# Altium schematic symbol library Seaglider_Power_board_Schematic_Library.SchLib: 35 symbols
Pins are listed as number, name and electrical type; pins without a type are passive.

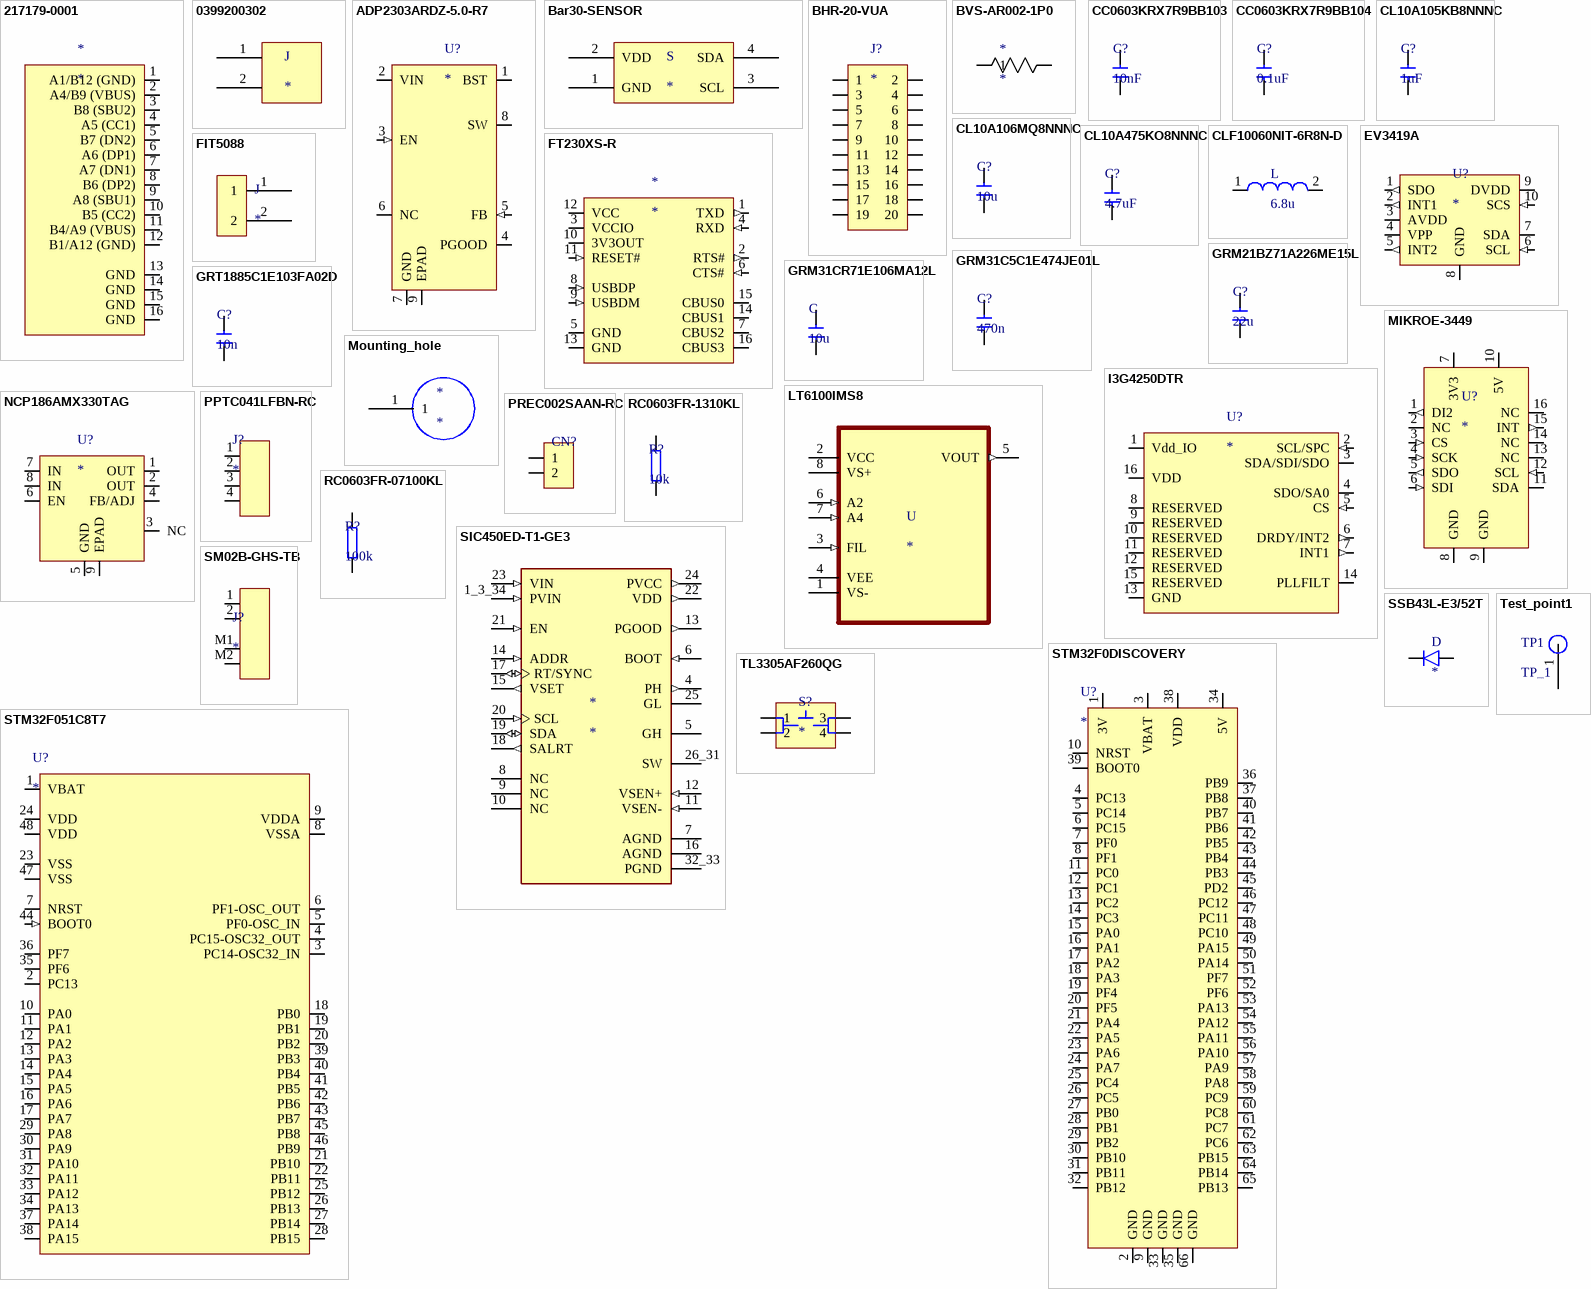
[diagram p0: symbols 217179-0001 to TL3305AF260QG]

## 217179-0001
designator *
Manufacturer: Molex; Manufacturer Part Number: 217179-0001; Supplier: Mouser; Supplier Part Number: 538-217179-0001; RoHS: No; Category: Connectors; Pricing: 1=0.9, 10=0.738, 50=0.738, 100=0.622, 1000=0.571, 10000=0.44 (USD)
footprint USB TYPE C 16 PIN TOP MOUNT SMT
pins: 1 A1/B12 (GND), 2 A4/B9 (VBUS), 3 B8 (SBU2), 4 A5 (CC1), 5 B7 (DN2), 6 A6 (DP1), 7 A7 (DN1), 8 B6 (DP2), 9 A8 (SBU1), 10 B5 (CC2), 11 B4/A9 (VBUS), 12 B1/A12 (GND), 13 GND, 14 GND, 15 GND, 16 GND

## 0399200302
designator J  (no BOM)
footprint 0399200302 (Connector)
pins: 1, 2

## ADP2303ARDZ-5.0-R7
designator U?
IC REG BUCK 5V 3A 8SOIC; Manufacturer: Analog Devices; Manufacturer Part Number: ADP2303ARDZ-5.0-R7; Number of Outputs: 1; Min Input Voltage: 3V; Max Supply Voltage: 20V; Rise Time: 170ns; Switching Frequency: 700kHz; Min Output Voltage: 800mV; Synchronous Rectifier: No; Operating Supply Current: 950uA; Fall Time: 280ns; Max Duty Cycle: 50%; Max Output Voltage: 16V; Output Type: Fixed; Output Configuration: Positive; Supplier: Digi-Key; Supplier Part Number: 505-ADP2303ARDZ-5.0-R7CT-ND; RoHS: Yes; Category: Voltage Regulators - Switching; Stock: 1579; Pricing: 1=4.1, 10=3.678, 25=3.4768, 100=3.0133, 250=2.8588, 500=2.5652 (USD); Mounting Technology: Surface Mount; Case/Package: SOIC; Pins: 8; Weight: 0.019048oz; Contact Plating: Tin,Matte; Min Operating Temperature: -40°C; Max Operating Temperature: 125°C; Packaging: Tape and Reel; Output Current: 3A; Output Voltage: 5V; Operating Supply Voltage: 20V; Nominal Output Voltage: 5V; Max Output current: 3A; Series: -; Length: 4.9mm; Width: 4mm; Height: 1.75mm; Radiation Hardening: No; Reach SVHC Compliant: No; Lead Free: Contains Lead; RoHS Compliant: Yes; ComponentLink1URL: https://datasheet.ciiva.com/25626/0900766b810b59f9-25626508.pdf?src-supplier=Rs; ComponentLink1Description: https://datasheet.ciiva.com/25626/0900766b810b59f9-25626508.pdf?src-supplier=Rs; ComponentLink2URL: https://datasheet.ciiva.com/7994/1624274-7994911.pdf?src-supplier=Element14; ComponentLink2Description: https://datasheet.ciiva.com/7994/1624274-7994911.pdf?src-supplier=Element14; ComponentLink3URL: https://datasheet.ciiva.com/28436/1624274-28436554.pdf?src-supplier=Element14; ComponentLink3Description: https://datasheet.ciiva.com/28436/1624274-28436554.pdf?src-supplier=Element14; ComponentLink4URL: https://datasheet.ciiva.com/2024/adp2302-2303-2024382.pdf?src-supplier=Digi-Key; ComponentLink4Description: https://datasheet.ciiva.com/2024/adp2302-2303-2024382.pdf?src-supplier=Digi-Key; ComponentLink5URL: https://datasheet.ciiva.com/2024/adp2302-2303-2024383.pdf?src-supplier=Digi-Key; ComponentLink5Description: https://datasheet.ciiva.com/2024/adp2302-2303-2024383.pdf?src-supplier=Digi-Key; ComponentLink6URL: https://datasheet.ciiva.com/2024/adp2302-2303-2024384.pdf?src-supplier=Digi-Key; ComponentLink6Description: https://datasheet.ciiva.com/2024/adp2302-2303-2024384.pdf?src-supplier=Digi-Key; ComponentLink7URL: https://datasheet.ciiva.com/48696/001251161-da-01-en-ic-reg-buc-adp2303ardz-5-0-r7-soic-8-adi-48696838.pdf?src-supplier=Conrad; ComponentLink7Description: https://datasheet.ciiva.com/48696/001251161-da-01-en-ic-reg-buc-adp2303ardz-5-0-r7-soic-8-adi-48696838.pdf?src-supplier=Conrad
footprint SOIC-8-EP
footprint SOIC-8-EP
pins: 1 BST, 2 VIN (power), 3 EN (in), 4 PGOOD (oe), 5 FB (in), 6 NC, 7 GND (power), 8 SW (power), 9 EPAD (power)

## Bar30-SENSOR
designator S
pins: 1 GND, 2 VDD, 3 SCL, 4 SDA

## BHR-20-VUA
designator J?
CONN HEADER VERT 20POS 2.54MM; Manufacturer: Adam Equipment; Manufacturer Part Number: BHR-20-VUA; Current Rating: 1A; Number of Positions: 20; Voltage Rating (AC): 250V; Supplier: Digi-Key; Supplier Part Number: 2057-BHR-20-VUA-ND; RoHS: Yes; Category: Card Edge Connectors; Stock: 5475; Pricing: 1=0.44, 10=0.387, 160=0.31944, 480=0.27775, 960=0.22915, 4960=0.20137, 10080=0.18748 (USD); Contact Material: Brass; Contact Plating: Gold; Contact Shape: Square; Contact Finish - Mating: GOLD; Insulation Material: PBT; Min Operating Temperature: -50°C; Max Operating Temperature: 105°C; Number of Rows: 2; Packaging: Tray; Series: BHR; Termination: Solder; Package Quantity: 216; Connector Type: Header; Fastening Type: Pull; Contact Type: Male Pin; Pitch: 2.54mm; Flammability Rating: UL94 V-0; Lead Free: Lead Free; ComponentLink1URL: https://datasheet.ciiva.com/16418/page-319-321-16418950.pdf?src-supplier=Future+Electronics; ComponentLink1Description: https://datasheet.ciiva.com/16418/page-319-321-16418950.pdf?src-supplier=Future+Electronics
footprint CONN SHROUDED HEADER VERT 20POS 2.54MM
pins: 1, 2, 3, 4, 5, 6, 7, 8, 9, 10, 11, 12, 13, 14, 15, 16, 17, 18, 19, 20

## BVS-AR002-1P0
designator *
footprint BVS-R002-1P0
pins: 1, 2

## CC0603KRX7R9BB103
designator C?, comment 10nF
CAP CER 10000PF 50V X7R 0603; Manufacturer: Yageo; Manufacturer Part Number: CC0603KRX7R9BB103; Material: Ceramic; Tolerance: 10%; Insulation Resistance: 100GR; Supplier: Digi-Key; Supplier Part Number: 311-1085-1-ND; RoHS: Yes; Category: Ceramic Capacitors; Stock: 6556090; Pricing: 1=0.1, 10=0.032, 50=0.0176, 100=0.0144, 500=0.01026, 1000=0.00805 (USD); Mounting Technology: Surface Mount; Case/Package: 0603; Pins: 2; Case Code (Metric): 1608; Case Code (Imperial): 0603; Min Operating Temperature: -55°C; Max Operating Temperature: 125°C; Value: 10nF; Dielectric: X7R; Voltage: 50V; Packaging: Tape and Reel; Voltage Rating: 50V; Voltage Rating (DC): 50V; Package Quantity: 1; Termination: SMD/SMT; Series: CC; Length: 1.6mm; Width: 0.031inch; Height: 0.8mm; Thickness: 0.035inch; Depth: 0.8mm; Radiation Hardening: No; RoHS Compliant: Yes; Lead Free: Lead Free; Halogen Free: Halogen Free; Reach SVHC Compliant: Unknown; ComponentLink1URL: https://datasheet.ciiva.com/11788/0900766b8079c870-11788374.pdf?src-supplier=Rs; ComponentLink1Description: https://datasheet.ciiva.com/11788/0900766b8079c870-11788374.pdf?src-supplier=Rs; ComponentLink2URL: https://datasheet.ciiva.com/26862/getdatasheetpartid-403582-26862846.pdf?src-supplier=Verical; ComponentLink2Description: https://datasheet.ciiva.com/26862/getdatasheetpartid-403582-26862846.pdf?src-supplier=Verical; ComponentLink3URL: https://datasheet.ciiva.com/8033/70765-8033817.pdf?src-supplier=Element14; ComponentLink3Description: https://datasheet.ciiva.com/8033/70765-8033817.pdf?src-supplier=Element14; ComponentLink4URL: https://datasheet.ciiva.com/28450/1489800-28450619.pdf?src-supplier=Element14; ComponentLink4Description: https://datasheet.ciiva.com/28450/1489800-28450619.pdf?src-supplier=Element14; ComponentLink5URL: https://datasheet.ciiva.com/176/mlccorderingcode-176551.pdf?src-supplier=Digi-Key; ComponentLink5Description: https://datasheet.ciiva.com/176/mlccorderingcode-176551.pdf?src-supplier=Digi-Key; ComponentLink6URL: https://datasheet.ciiva.com/176/mlccorderingcode-176550.pdf?src-supplier=Digi-Key; ComponentLink6Description: https://datasheet.ciiva.com/176/mlccorderingcode-176550.pdf?src-supplier=Digi-Key; ComponentLink7URL: https://datasheet.ciiva.com/176/mlccorderingcode-176552.pdf?src-supplier=Digi-Key; ComponentLink7Description: https://datasheet.ciiva.com/176/mlccorderingcode-176552.pdf?src-supplier=Digi-Key; ComponentLink8URL: https://datasheet.ciiva.com/13389/upy-gphc-x7r-6-3v-to-50v-8-13389991.pdf?src-supplier=Mouser; ComponentLink8Description: https://datasheet.ciiva.com/13389/upy-gphc-x7r-6-3v-to-50v-8-13389991.pdf?src-supplier=Mouser; ComponentLink9URL: https://datasheet.ciiva.com/8033/1734573-8033816.pdf?src-supplier=Element14; ComponentLink9Description: https://datasheet.ciiva.com/8033/1734573-8033816.pdf?src-supplier=Element14; ComponentLink10URL: https://datasheet.ciiva.com/8033/1734573-8033861.pdf?src-supplier=Element14; ComponentLink10Description: https://datasheet.ciiva.com/8033/1734573-8033861.pdf?src-supplier=Element14
footprint 0603 Capacitor
pins: 1, 2

## CC0603KRX7R9BB104
designator C?, comment 0.1uF
CAP CER 0.1UF 50V X7R 0603; Manufacturer: Yageo; Manufacturer Part Number: CC0603KRX7R9BB104; Dielectric Material: Ceramic; Value: 100nF; Tolerance: 10%; Supplier: Digi-Key; Supplier Part Number: 311-1344-1-ND; RoHS: Yes; Category: Ceramic Capacitors; Stock: 4893723; Pricing: 1=0.1, 10=0.054, 50=0.0296, 100=0.0243, 500=0.01732, 1000=0.01361 (USD); Mounting Technology: Surface Mount; Case/Package: 0603; Pins: 2; Case Code (Metric): 1608; Case Code (Imperial): 0603; Min Operating Temperature: -55°C; Max Operating Temperature: 125°C; Package Quantity: 1; Voltage Rating: 50V; Packaging: Tape and Reel; Dielectric: X7R; Termination: SMD/SMT; Voltage: 50V; Series: CC; Length: 0.063inch; Width: 0.031inch; Height: 0.8mm; Thickness: 0.035inch; Depth: 0.8mm; Radiation Hardening: No; Reach SVHC Compliant: No; Lead Free: Lead Free; Halogen Free: Halogen Free; RoHS Compliant: Yes; ComponentLink1URL: https://datasheet.ciiva.com/11786/0900766b80d84f1d-11786061.pdf?src-supplier=Rs; ComponentLink1Description: https://datasheet.ciiva.com/11786/0900766b80d84f1d-11786061.pdf?src-supplier=Rs; ComponentLink2URL: https://datasheet.ciiva.com/8033/70765-8033819.pdf?src-supplier=Element14; ComponentLink2Description: https://datasheet.ciiva.com/8033/70765-8033819.pdf?src-supplier=Element14; ComponentLink3URL: https://datasheet.ciiva.com/8033/70765-8033821.pdf?src-supplier=Element14; ComponentLink3Description: https://datasheet.ciiva.com/8033/70765-8033821.pdf?src-supplier=Element14; ComponentLink4URL: https://datasheet.ciiva.com/7978/1489800-7978166.pdf?src-supplier=Element14; ComponentLink4Description: https://datasheet.ciiva.com/7978/1489800-7978166.pdf?src-supplier=Element14; ComponentLink5URL: https://datasheet.ciiva.com/31394/1489800-31394927.pdf?src-supplier=Farnell; ComponentLink5Description: https://datasheet.ciiva.com/31394/1489800-31394927.pdf?src-supplier=Farnell; ComponentLink6URL: https://datasheet.ciiva.com/22749/1489800-22749214.pdf?src-supplier=Element14; ComponentLink6Description: https://datasheet.ciiva.com/22749/1489800-22749214.pdf?src-supplier=Element14; ComponentLink7URL: https://datasheet.ciiva.com/144/mlccorderingcode-144177.pdf?src-supplier=Digi-Key; ComponentLink7Description: https://datasheet.ciiva.com/144/mlccorderingcode-144177.pdf?src-supplier=Digi-Key; ComponentLink8URL: https://datasheet.ciiva.com/144/mlccorderingcode-144176.pdf?src-supplier=Digi-Key; ComponentLink8Description: https://datasheet.ciiva.com/144/mlccorderingcode-144176.pdf?src-supplier=Digi-Key; ComponentLink9URL: https://datasheet.ciiva.com/144/mlccorderingcode-144178.pdf?src-supplier=Digi-Key; ComponentLink9Description: https://datasheet.ciiva.com/144/mlccorderingcode-144178.pdf?src-supplier=Digi-Key
footprint 0603 Capacitor
pins: 1, 2

## CL10A105KB8NNNC
designator C?, comment 1uF
CAP CER 1UF 50V X5R 0603; Manufacturer: Samsung; Manufacturer Part Number: CL10A105KB8NNNC; Tolerance: 10%; Supplier: Digi-Key; Supplier Part Number: 1276-1860-1-ND; RoHS: Yes; Category: Ceramic Capacitors; Stock: 3695273; Pricing: 1=0.14, 10=0.098, 50=0.0558, 100=0.0462, 500=0.03238, 1000=0.0268 (USD); Mounting Technology: Surface Mount; Case/Package: 0603; Case Code (Metric): 1608; Case Code (Imperial): 0603; Min Operating Temperature: -55°C; Max Operating Temperature: 85°C; Packaging: Tape and Reel; Value: 1uF; Voltage Rating: 50V; Dielectric: X5R; Series: CL; Length: 1.6mm; Depth: 0.8mm; Radiation Hardening: No; RoHS Compliant: Yes; ComponentLink1URL: https://datasheet.ciiva.com/26877/getdatasheetpartid-753736-26877879.pdf?src-supplier=Verical; ComponentLink1Description: https://datasheet.ciiva.com/26877/getdatasheetpartid-753736-26877879.pdf?src-supplier=Verical
footprint 0603 Capacitor
pins: 1, 2

## CL10A106MQ8NNNC
designator C?, comment 10u
CAP CER 10UF 6.3V X5R 0603; Manufacturer: Samsung; Manufacturer Part Number: CL10A106MQ8NNNC; Tolerance: 20%; Supplier: Digi-Key; Supplier Part Number: 1276-1119-1-ND; RoHS: Yes; Category: Ceramic Capacitors; Stock: 2630109; Pricing: 1=0.11, 10=0.083, 50=0.0452, 100=0.0369, 500=0.02638, 1000=0.02072 (USD); Mounting Technology: Surface Mount; Case/Package: 0603; Case Code (Metric): 1608; Case Code (Imperial): 0603; Min Operating Temperature: -55°C; Max Operating Temperature: 85°C; Value: 10uF; Packaging: Tape and Reel; Voltage Rating: 6.3V; Dielectric: X5R; Series: CL; Voltage: 6.3V; Construction: Flat; Length: 1.6mm; Height: 0.8mm; Depth: 0.8mm; Radiation Hardening: No; RoHS Compliant: Yes; ComponentLink1URL: https://datasheet.ciiva.com/25798/cl10a106mq8nnnc-25798320.pdf?src-supplier=Digi-Key; ComponentLink1Description: https://datasheet.ciiva.com/25798/cl10a106mq8nnnc-25798320.pdf?src-supplier=Digi-Key; ComponentLink2URL: https://datasheet.ciiva.com/26838/getdatasheetpartid-357557-26838347.pdf?src-supplier=Verical; ComponentLink2Description: https://datasheet.ciiva.com/26838/getdatasheetpartid-357557-26838347.pdf?src-supplier=Verical; ComponentLink3URL: https://datasheet.ciiva.com/16437/cl05b104kq5nnnc-16437327.pdf?src-supplier=Future+Electronics; ComponentLink3Description: https://datasheet.ciiva.com/16437/cl05b104kq5nnnc-16437327.pdf?src-supplier=Future+Electronics
footprint 0603 Capacitor
pins: 1, 2

## CL10A475KO8NNNC
designator C?, comment 4.7uF
CAP CER 4.7UF 16V X5R 0603; Manufacturer: Samsung; Manufacturer Part Number: CL10A475KO8NNNC; Material: Ceramic; Tolerance: 10%; Supplier: Digi-Key; Supplier Part Number: 1276-1784-1-ND; RoHS: Yes; Category: Ceramic Capacitors; Stock: 1327746; Pricing: 1=0.12, 10=0.084, 50=0.0476, 100=0.0394, 500=0.02764, 1000=0.02288 (USD); Mounting Technology: Surface Mount; Case/Package: 0603; Case Code (Metric): 1608; Case Code (Imperial): 0603; Min Operating Temperature: -55°C; Max Operating Temperature: 85°C; Packaging: Tape and Reel; Value: 4.7uF; Voltage Rating: 16V; Dielectric: X5R; Voltage: 16V; Series: CL; Construction: Flat; Length: 1.6mm; Height: 0.8mm; Depth: 0.8mm; Radiation Hardening: No; RoHS Compliant: Yes
footprint 0603 Capacitor
pins: 1, 2

## CLF10060NIT-6R8N-D
designator L, comment 6.8u
FIXED IND 6.8UH 4.25A 16.9 MOHM; Manufacturer: TDK; Manufacturer Part Number: CLF10060NIT-6R8N-D; Core Material: Ferrite; RMS Current (Irms): 6.6A; DC Resistance (DCR): 16.9mR; Inductance Tolerance: 30%; Shielding: Shielded; Test Frequency: 100kHz; Supplier: Digi-Key; Supplier Part Number: 445-174715-1-ND; RoHS: Yes; Category: Fixed Inductors; Stock: 2437; Pricing: 1=1.43, 10=1.323, 25=1.1024, 50=1.0364, 100=0.9261, 250=0.7938 (USD); Mounting Technology: Surface Mount; Case/Package: Nonstandard; Min Operating Temperature: -55°C; Max Operating Temperature: 150°C; Value: 6.8uH; Saturation Current: 4.25A; Packaging: Tape and Reel; Series: CLF-NI-D; Tolerance: 30%; Ratings: AEC-Q200; Reach SVHC Compliant: No; RoHS Compliant: Yes; ComponentLink1URL: https://product.tdk.com/info/en/catalog/datasheets/inductor_automotive_power_clf10060ni-d_en.pdf?src-supplier=Digi-Key; ComponentLink1Description: https://product.tdk.com/info/en/catalog/datasheets/inductor_automotive_power_clf10060ni-d_en.pdf?src-supplier=Digi-Key; ComponentLink2URL: https://product.tdk.com/info/en/catalog/datasheets/inductor_automotive_power_clf10060ni-d_en.pdf?ref_disty=digikey&src-supplier=Digi-Key; ComponentLink2Description: https://product.tdk.com/info/en/catalog/datasheets/inductor_automotive_power_clf10060ni-d_en.pdf?ref_disty=digikey&src-supplier=Digi-Key; ComponentLink3URL: http://www.farnell.com/datasheets/2159117.pdf?src-supplier=Element14; ComponentLink3Description: http://www.farnell.com/datasheets/2159117.pdf?src-supplier=Element14
footprint CLF10060NIT-6R8N-D 10.10mm x 10.00mm
pins: 1   1, 2

## EV3419A
designator U?
MC3419 DAUGHTER CARD; Manufacturer: Memsic; Manufacturer Part Number: EV3419A; Supplier: Digi-Key; Supplier Part Number: 3502-EV3419A-ND; RoHS: No; Category: Uncategorized; Stock: 42; Pricing: 1=14.51 (USD)
footprint EV3419A
pins: 1 SDO (out), 2 INT1 (out), 3 AVDD, 4 VPP (power), 5 INT2 (out), 6 SCL (in), 7 SDA (io), 8 GND (power), 9 DVDD (power), 10 SCS (in)

## FIT5088
designator J
footprint FIT0588 (HIGH QUALITY GOLD PLATED XT90 MA Bullet Connector)
pins: 1, 2

## FT230XS-R
designator *
UART Interface RS232, RS422, RS485, SIE, UART 3MBd, 5 V, 16-Pin, SSOP; Manufacturer: FTDI; Manufacturer Part Number: FT230XS-R; Data Rate: 12Mbps; Operating Supply Voltage: 5V; Number of Channels: 1; Max Supply Voltage: 5.5V; Min Supply Voltage: 2.97V; Interface: UART,USB; Operating Supply Current: 8mA; Supplier: Digi-Key; Supplier Part Number: 768-1135-1-ND; RoHS: Yes; Category: Interface ICs; Stock: 32419; Pricing: 1=2.26, 25=2.19, 100=2.12, 250=1.93, 500=1.7625 (USD); Mounting Technology: Surface Mount; Case/Package: SSOP; Pins: 16; Weight: 0.004586oz; Min Operating Temperature: -40°C; Max Operating Temperature: 85°C; Packaging: Tape and Reel; Package Quantity: 3000; Series: USBmadeEZ-UART, FT-X, X-Chip; Length: 5mm; Width: 0.157inch; Height: 0.059inch; RoHS Compliant: Yes; ComponentLink1URL: https://datasheet.ciiva.com/1787/ds-ft230x-1787315.pdf?src-supplier=Digi-Key; ComponentLink1Description: https://datasheet.ciiva.com/1787/ds-ft230x-1787315.pdf?src-supplier=Digi-Key; ComponentLink2URL: https://datasheet.ciiva.com/4787/ds-ft230x-5395-4787571.pdf?src-supplier=Mouser; ComponentLink2Description: https://datasheet.ciiva.com/4787/ds-ft230x-5395-4787571.pdf?src-supplier=Mouser; ComponentLink3URL: https://datasheet.ciiva.com/30478/0900766b811020cb-30478167.pdf?src-supplier=Rs; ComponentLink3Description: https://datasheet.ciiva.com/30478/0900766b811020cb-30478167.pdf?src-supplier=Rs; ComponentLink4URL: https://datasheet.ciiva.com/1787/ft-x-series-1787316.pdf?src-supplier=Digi-Key; ComponentLink4Description: https://datasheet.ciiva.com/1787/ft-x-series-1787316.pdf?src-supplier=Digi-Key; ComponentLink5URL: https://datasheet.ciiva.com/1787/ft-x-series-1787317.pdf?src-supplier=Digi-Key; ComponentLink5Description: https://datasheet.ciiva.com/1787/ft-x-series-1787317.pdf?src-supplier=Digi-Key
footprint SSOP16 3.9x4.9mm P0.635
pins: 1 TXD (out), 2 RTS# (out), 3 VCCIO (power), 4 RXD (in), 5 GND (power), 6 CTS# (in), 7 CBUS2 (io), 8 USBDP (in), 9 USBDM (in), 10 3V3OUT (power), 11 RESET# (in), 12 VCC (power), 13 GND (power), 14 CBUS1 (io), 15 CBUS0 (io), 16 CBUS3 (io)

## GRM21BZ71A226ME15L
designator C?, comment 22u
CAP CER 22UF 10V X7R 0805; Manufacturer: Murata; Manufacturer Part Number: GRM21BZ71A226ME15L; Supplier: Digi-Key; Supplier Part Number: 490-GRM21BZ71A226ME15LCT-ND; RoHS: Yes; Category: Ceramic Capacitors; Stock: 55376; Pricing: 1=0.35, 10=0.241, 50=0.1688, 100=0.1447, 500=0.10852, 1000=0.09164 (USD); RoHS Compliant: Yes; ComponentLink1URL: https://datasheet.octopart.com/GRM21BZ71A226ME15L-Murata-datasheet-165579666.pdf?src-supplier=TME; ComponentLink1Description: https://datasheet.octopart.com/GRM21BZ71A226ME15L-Murata-datasheet-165579666.pdf?src-supplier=TME
footprint 0805 Capacitor
pins: 1, 2

## GRM31C5C1E474JE01L
designator C?, comment 470n
CAP CER 0.47UF 25V C0G/NP0 1206; Manufacturer: Murata; Manufacturer Part Number: GRM31C5C1E474JE01L; Supplier: Digi-Key; Supplier Part Number: 490-GRM31C5C1E474JE01LCT-ND; RoHS: Yes; Category: Ceramic Capacitors; Stock: 2413; Pricing: 1=0.67, 10=0.473, 50=0.358, 100=0.3118, 500=0.23096, 1000=0.19631 (USD)
footprint 1206 Capacitor
pins: 1, 2

## GRM31CR71E106MA12L
designator C, comment 10u
CAP CER 10UF 25V X7R 1206; Manufacturer: Murata; Manufacturer Part Number: GRM31CR71E106MA12L; Tolerance: 20%; Supplier: Digi-Key; Supplier Part Number: 490-6519-1-ND; RoHS: Yes; Category: Ceramic Capacitors; Stock: 74067; Pricing: 1=0.29, 10=0.199, 50=0.1396, 100=0.1196, 500=0.08972, 1000=0.07576 (USD); Mounting Technology: Surface Mount; Case/Package: 1206; Case Code (Metric): 3216; Case Code (Imperial): 1206; Material: 4241ConductorMaterial; Min Operating Temperature: -55°C; Max Operating Temperature: 125°C; Value: 10uF; Dielectric: X7R; Package Quantity: 1; Voltage Rating: 25V; Packaging: Tape and Reel; Termination: SMD/SMT; Voltage: 25V; Voltage Rating (DC): 25V; Series: GRM; Construction: Flat; Length: 3.2mm; Width: 0.063inch; Height: 1.6mm; Thickness: 0.071inch; Depth: 1.6mm; Radiation Hardening: No; Reach SVHC Compliant: No; Lead Free: Lead Free; RoHS Compliant: Yes; ComponentLink1URL: https://datasheet.ciiva.com/11607/product-11607561.pdf?src-supplier=Avnet; ComponentLink1Description: https://datasheet.ciiva.com/11607/product-11607561.pdf?src-supplier=Avnet; ComponentLink2URL: https://datasheet.ciiva.com/5412/product-5412861.pdf?src-supplier=Mouser; ComponentLink2Description: https://datasheet.ciiva.com/5412/product-5412861.pdf?src-supplier=Mouser; ComponentLink3URL: https://datasheet.ciiva.com/6264/partnumbering-e-01-6264463.pdf?src-supplier=Digi-Key; ComponentLink3Description: https://datasheet.ciiva.com/6264/partnumbering-e-01-6264463.pdf?src-supplier=Digi-Key
footprint 1206 Capacitor
pins: 1, 2

## GRT1885C1E103FA02D
designator C?, comment 10n
CAP CER 10000PF 25V C0G/NP0 0603; Manufacturer: Murata; Manufacturer Part Number: GRT1885C1E103FA02D; Supplier: Digi-Key; Supplier Part Number: 490-GRT1885C1E103FA02DCT-ND; RoHS: Yes; Category: Ceramic Capacitors; Stock: 1917; Pricing: 1=0.23, 10=0.156, 50=0.0934, 100=0.0788, 500=0.05394, 1000=0.04772 (USD)
footprint 0603 Capacitor
pins: 1, 2

## I3G4250DTR
designator U?
I3G4250D Series 3.6 V 6.1 mA Low-Power 3-Axis Angular Rate Sensor - LGA-16; Manufacturer: STMicroelectronics; Manufacturer Part Number: I3G4250DTR; Operating Supply Current: 6.1mA; Min Supply Voltage: 2.4V; Max Supply Voltage: 3.6V; Output Type: SPI,I2C; Axis: X, Y, Z; Supplier: Digi-Key; Supplier Part Number: 497-15699-1-ND; RoHS: Yes; Category: Gyroscopes; Stock: 17860; Pricing: 1=11.64, 10=9.315, 25=8.6164, 100=7.452, 500=6.98622, 1000=6.52047 (USD); Case/Package: TFLGA; Pins: 16; Min Operating Temperature: -40°C; Max Operating Temperature: 85°C; Packaging: Cut Tape; Series: -; Reach SVHC Compliant: No; Lead Free: Lead Free; RoHS Compliant: Yes; ComponentLink1URL: http://www.farnell.com/datasheets/2028144.pdf?src-supplier=Farnell; ComponentLink1Description: http://www.farnell.com/datasheets/2028144.pdf?src-supplier=Farnell; ComponentLink2URL: http://www.st.com/st-web-ui/static/active/en/resource/technical/document/datasheet/DM00168691.pdf?src-supplier=Avnet; ComponentLink2Description: http://www.st.com/st-web-ui/static/active/en/resource/technical/document/datasheet/DM00168691.pdf?src-supplier=Avnet; ComponentLink3URL: http://www.farnell.com/datasheets/2028144.pdf?src-supplier=Element14; ComponentLink3Description: http://www.farnell.com/datasheets/2028144.pdf?src-supplier=Element14; ComponentLink4URL: http://www.st.com/content/ccc/resource/technical/document/datasheet/e4/b1/d1/62/1a/e6/44/2f/DM00168691.pdf/files/DM00168691.pdf/jcr:content/translations/en.DM00168691.pdf?src-supplier=Digi-Key; ComponentLink4Description: http://www.st.com/content/ccc/resource/technical/document/datasheet/e4/b1/d1/62/1a/e6/44/2f/DM00168691.pdf/files/DM00168691.pdf/jcr:content/translations/en.DM00168691.pdf?src-supplier=Digi-Key
footprint LGA-16
footprint LGA-16
pins: 1 Vdd_IO (power), 2 SCL/SPC (in), 3 SDA/SDI/SDO (io), 4 SDO/SA0 (io), 5 CS (in), 6 DRDY/INT2 (out), 7 INT1 (out), 8 RESERVED, 9 RESERVED, 10 RESERVED, 11 RESERVED, 12 RESERVED, 13 GND (power), 14 PLLFILT, 15 RESERVED, 16 VDD (power)

## LT6100IMS8
designator U
footprint LT6100IMS8
pins: 1 VS- (power), 2 VCC (power), 3 FIL (in), 4 VEE (power), 5 VOUT (out), 6 A2 (in), 7 A4 (in), 8 VS+ (power)

## MIKROE-3449
designator U?
ICREGLDO3.3V1A8XDFN; Manufacturer: mikroElektronika; Output Voltage: 3.3V; Output Current: 1A; Dropout Voltage: 95mV; Number of Regulators: 1; Min Current Limit: 1.1A; Supplier: Digi-Key; Supplier Part Number: 1471-2189-ND; Manufacturer Part Number: MIKROE-3449; RoHS: No; Stock: 1; Pricing: 1=25 (USD); Category: Voltage Regulators - Linear; Mounting Technology: Surface Mount; Pins: 8; Min Operating Temperature: -40°C; Max Operating Temperature: 125°C; Packaging: Cut Tape; Series: -; Lead Free: Lead Free; RoHS Compliant: Yes; ComponentLink1URL: http://www.farnell.com/datasheets/2236905.pdf?src-supplier=Farnell; ComponentLink1Description: http://www.farnell.com/datasheets/2236905.pdf?src-supplier=Farnell; ComponentLink2URL: https://www.onsemi.com/pub/Collateral/NCP186-D.PDF?src-supplier=Digi-Key; ComponentLink2Description: https://www.onsemi.com/pub/Collateral/NCP186-D.PDF?src-supplier=Digi-Key; ComponentLink3URL: http://www.onsemi.com/pub/Collateral/NCP186-D.PDF?src-supplier=Digi-Key; ComponentLink3Description: http://www.onsemi.com/pub/Collateral/NCP186-D.PDF?src-supplier=Digi-Key; ComponentLink4URL: https://datasheet.octopart.com/NCP186AMX330TAG-ON-Semiconductor-datasheet-57745983.pdf?src-supplier=Element14; ComponentLink4Description: https://datasheet.octopart.com/NCP186AMX330TAG-ON-Semiconductor-datasheet-57745983.pdf?src-supplier=Element14; ComponentLink5URL: https://datasheet.octopart.com/NCP186AMX330TAG-ON-Semiconductor-datasheet-139012264.pdf?src-supplier=Future+Electronics; ComponentLink5Description: https://datasheet.octopart.com/NCP186AMX330TAG-ON-Semiconductor-datasheet-139012264.pdf?src-supplier=Future+Electronics; ComponentLink6URL: http://www.farnell.com/datasheets/2236905.pdf?src-supplier=Newark; ComponentLink6Description: http://www.farnell.com/datasheets/2236905.pdf?src-supplier=Newark
footprint MIKROE-3449
pins: 1 DI2 (out), 2 NC, 3 CS (in), 4 SCK (in), 5 SDO (out), 6 SDI (in), 7 3V3 (power), 8 GND (power), 9 GND (power), 10 5V (power), 11 SDA (io), 12 SCL (in), 13 NC, 14 NC, 15 INT (out), 16 NC

## Mounting_hole
designator *
footprint Mounting_Hole
pins: 1

## NCP186AMX330TAG
designator U?
ICREGLDO3.3V1A8XDFN
footprint 8-XFDFN Exposed Pad
pins: 1 OUT, 2 OUT, 3 NC, 4 FB/ADJ, 5 GND, 6 EN, 7 IN, 8 IN, 9 EPAD

## PPTC041LFBN-RC
designator J?
CONN HDR 4POS 0.1 TIN PCB; Manufacturer: Sullins; Manufacturer Part Number: PPTC041LFBN-RC; Number of Positions: 4; Connector Type: Header; Voltage Rating: 250V; Pitch: 2.54mm; Supplier: Digikey; Supplier Part Number: S7002-ND; RoHS: Yes; Category: Connectors; Stock: 28323; Pricing: 1=0.46, 10=0.399, 100=0.3286, 500=0.28574, 1000=0.23574, 5000=0.20716, 10000=0.2041 (USD); Mounting Technology: Through Hole; Contact Material: Bronze; Housing Material: Plastic; Contact Finish - Mating: TIN; Insulation Color: Black; Insulation Material: Polyester; Contact Shape: Square; Min Operating Temperature: -40°C; Max Operating Temperature: 105°C; Number of Rows: 1; Packaging: Tray; Termination: Solder; Contact Type: Female Socket; Fastening Type: Pull; Series: -; Length: 10.7mm; Width: 2.5mm; Height: 8.5mm; Lead Free: Lead Free; RoHS Compliant: Yes; Flammability Rating: UL94 V-0; ComponentLink1URL: https://media.digikey.com/pdf/Data%20Sheets/Sullins%20PDFs/Female_Headers.100_DS.pdf?src-supplier=Digikey; ComponentLink1Description: https://media.digikey.com/pdf/Data%20Sheets/Sullins%20PDFs/Female_Headers.100_DS.pdf?src-supplier=Digikey; ComponentLink2URL: http://www.sullinscorp.com/catalogs/78_Page80-81_HEADER_.100_2.54mm_FEMALE.pdf?src-supplier=Future+Electronics; ComponentLink2Description: http://www.sullinscorp.com/catalogs/78_Page80-81_HEADER_.100_2.54mm_FEMALE.pdf?src-supplier=Future+Electronics; ComponentLink3URL: https://datasheet.octopart.com/PPTC041LFBN-RC-Sullins-datasheet-41308905.pdf?src-supplier=Future+Electronics; ComponentLink3Description: https://datasheet.octopart.com/PPTC041LFBN-RC-Sullins-datasheet-41308905.pdf?src-supplier=Future+Electronics
footprint HDR 4POS 2.54mm
pins: 1, 2, 3, 4

## PREC002SAAN-RC
designator CN?
CONN HEADER VERT 2POS 2.54MM; Manufacturer: Sullins; Manufacturer Part Number: PREC002SAAN-RC; Number of Positions: 2; Pitch: 0.1inch; Supplier: Digi-Key; Supplier Part Number: S1012EC-02-ND; RoHS: Yes; Category: Connectors; Stock: 23153; Pricing: 1=0.06, 10=0.056, 25=0.0416, 50=0.0356, 100=0.0345, 250=0.02972, 500=0.02852 (USD); Mounting Technology: Through Hole; Color: Black; Contact Plating: Tin; Package Quantity: 1; Number of Rows: 1; Packaging: Bulk; Termination: Solder; Series: -; Contact Type: Male Pin; Contact Mating Length: 0.23inch; RoHS Compliant: Yes; ComponentLink1URL: https://datasheet.ciiva.com/740/zrzczzzszzn-rc-st-11635-b-740843.pdf?src-supplier=Digi-Key; ComponentLink1Description: https://datasheet.ciiva.com/740/zrzczzzszzn-rc-st-11635-b-740843.pdf?src-supplier=Digi-Key
footprint Header 2.54mm
pins: 1, 2

## RC0603FR-1310KL
designator R?, comment 10k
RES 10K OHM 1% 1/10W 0603; Manufacturer: Yageo; Manufacturer Part Number: RC0603FR-1310KL; Value: 10kR; Power Rating: 100mW; Voltage Rating: 50V; Temperature Coefficient: 100ppm/°C; Supplier: Digi-Key; Supplier Part Number: 13-RC0603FR-1310KLDKR-ND; RoHS: Yes; Category: Chip SMD Resistors; Stock: 124542; Pricing: 1=0.1, 10=0.018, 50=0.0106, 100=0.0088, 500=0.00592, 1000=0.00505, 5000=0.00363, 10000=0.00318 (USD); Pins: 2; Case Code (Imperial): 0603; Case Code (Metric): 1608; Case/Package: 0603; Min Operating Temperature: -55°C; Max Operating Temperature: 155°C; Tolerance: 1%; Packaging: Tape and Reel; Resistor Type: Thick Film; Termination: SMD/SMT; Voltage Rating (DC): 50V; Series: RC; Resistance Tolerance: 1%; RoHS Compliant: Yes; Reach SVHC Compliant: No; Lead Free: Lead Free; ComponentLink1URL: https://datasheet.ciiva.com/7983/443971-7983673.pdf?src-supplier=Element14; ComponentLink1Description: https://datasheet.ciiva.com/7983/443971-7983673.pdf?src-supplier=Element14; ComponentLink2URL: https://datasheet.ciiva.com/16850/pyu-rc0603-51-rohs-l-4-16850349.pdf?src-supplier=Future+Electronics; ComponentLink2Description: https://datasheet.ciiva.com/16850/pyu-rc0603-51-rohs-l-4-16850349.pdf?src-supplier=Future+Electronics
footprint 0603 Resistor
pins: 1, 2

## RC0603FR-07100KL
designator R?, comment 100k
RES 100K OHM 1% 1/10W 0603; Manufacturer: Yageo; Manufacturer Part Number: RC0603FR-07100KL; Value: 100kR; Temperature Coefficient: 100ppm/°C; Power Rating: 100mW; Voltage Rating: 50V; Supplier: Digi-Key; Supplier Part Number: 311-100KHRCT-ND; RoHS: Yes; Category: Chip SMD Resistors; Stock: 6816177; Pricing: 1=0.1, 10=0.018, 50=0.0106, 100=0.0088, 500=0.00592, 1000=0.00505 (USD); Case/Package: 0603; Pins: 2; Case Code (Imperial): 0603; Case Code (Metric): 1608; Min Operating Temperature: -55°C; Max Operating Temperature: 155°C; Tolerance: 1%; Resistor Type: Thick Film; Voltage Rating (DC): 50V; Packaging: Tape and Reel; Termination: SMD/SMT; Number of Terminations: 2; Features: Moisture Resistant; Series: RC; Max Power Dissipation: 100mW; Resistance Tolerance: 1%; Construction: Rectangular; Technology: THICK FILM; Length: 1.6mm; Width: 0.8mm; Height: 0.45mm; Depth: 0.8mm; Reach SVHC Compliant: No; Military Standard: Not; Lead Free: Lead Free; RoHS Compliant: Yes; ComponentLink1URL: https://datasheet.ciiva.com/11808/0900766b80f96399-11808107.pdf?src-supplier=Rs; ComponentLink1Description: https://datasheet.ciiva.com/11808/0900766b80f96399-11808107.pdf?src-supplier=Rs; ComponentLink2URL: https://datasheet.ciiva.com/7983/443971-7983593.pdf?src-supplier=Element14; ComponentLink2Description: https://datasheet.ciiva.com/7983/443971-7983593.pdf?src-supplier=Element14; ComponentLink3URL: https://datasheet.ciiva.com/22747/443971-22747516.pdf?src-supplier=Element14; ComponentLink3Description: https://datasheet.ciiva.com/22747/443971-22747516.pdf?src-supplier=Element14; ComponentLink4URL: https://datasheet.ciiva.com/46440/1868787-46440889.pdf?src-supplier=Element14; ComponentLink4Description: https://datasheet.ciiva.com/46440/1868787-46440889.pdf?src-supplier=Element14; ComponentLink5URL: https://datasheet.ciiva.com/7746/1738695-7746235.pdf?src-supplier=Element14; ComponentLink5Description: https://datasheet.ciiva.com/7746/1738695-7746235.pdf?src-supplier=Element14; ComponentLink6URL: https://datasheet.ciiva.com/7746/1738695-7746234.pdf?src-supplier=Element14; ComponentLink6Description: https://datasheet.ciiva.com/7746/1738695-7746234.pdf?src-supplier=Element14
footprint 0603 Resistor
pins: 1, 2

## SIC450ED-T1-GE3
designator *
footprint SIC450ED-T1-GE3
pins: 1_3_34 PVIN (in), 4 PH (out), 5 GH, 6 BOOT (in), 7 AGND (power), 8 NC, 9 NC, 10 NC, 11 VSEN- (in), 12 VSEN+ (in), 13 PGOOD (out), 14 ADDR (in), 15 VSET (out), 16 AGND (power), 17 RT/SYNC (io), 18 SALRT (out), 19 SDA (io), 20 SCL (in), 21 EN (in), 22 VDD (out), 23 VIN (in), 24 PVCC (out), 25 GL, 26_31 SW, 32_33 PGND (power)

## SM02B-GHS-TB
designator J?
CONN HDR PIN; Manufacturer: JST; Manufacturer Part Number: SM02B-GHS-TB; Supplier: Digikey; Supplier Part Number: 455-1564-1-ND; RoHS: No; Stock: 9689; Pricing: 1=0.46, 10=0.39, 100=0.303, 500=0.2597, 1000=0.21642 (USD)
footprint SM02B-GHS-TB
pins: 1, 2, M1, M2

## SSB43L-E3/52T
designator D
DIODE SCHOTTKY 30V 4A DO214AA; Manufacturer: Vishay Semiconductors; Manufacturer Part Number: SSB43L-E3/52T; Max Surge Current: 100A; Forward Voltage: 450mV; Max Reverse Current: 600uA; Polarity: Standard; Supplier: Digi-Key; Supplier Part Number: SSB43L-E3/52TGICT-ND; RoHS: Yes; Category: Rectifier Diodes; Stock: 42896; Pricing: 1=0.56, 10=0.482, 100=0.3351 (USD); Mounting Technology: Surface Mount; Case/Package: DO-214AA; Pins: 2; Min Operating Temperature: -65°C; Max Operating Temperature: 150°C; Packaging: Tape and Reel; Forward Current: 4A; Package Quantity: 1; Max Reverse Leakage Current: 600uA; Average Rectified Current: 4A; Peak Non-Repetitive Surge Current: 100A; Max Repetitive Reverse Voltage (Vrrm): 30V; Max Forward Surge Current (Ifsm): 100A; Voltage Rating (DC): 30V; Current Rating: 4A; Output Current: 4A; Max Reverse Voltage (DC): 30V; Length: 4.7mm; Width: 3.8mm; Height: 0.095inch; Radiation Hardening: No; Lead Free: Lead Free; RoHS Compliant: Yes; Reach SVHC Compliant: Unknown; ComponentLink1URL: https://datasheet.ciiva.com/14634/0900766b80dd0508-14634162.pdf?src-supplier=Allied+Electronics; ComponentLink1Description: https://datasheet.ciiva.com/14634/0900766b80dd0508-14634162.pdf?src-supplier=Allied+Electronics; ComponentLink2URL: https://datasheet.ciiva.com/4245/ssb43l-4245635.pdf?src-supplier=Arrow+Electronics; ComponentLink2Description: https://datasheet.ciiva.com/4245/ssb43l-4245635.pdf?src-supplier=Arrow+Electronics; ComponentLink3URL: https://datasheet.ciiva.com/18434/70217334-18434422.pdf?src-supplier=Allied+Electronics; ComponentLink3Description: https://datasheet.ciiva.com/18434/70217334-18434422.pdf?src-supplier=Allied+Electronics
footprint DO-214AA
footprint DO-214AA
footprint DO-214AA
footprint DO-214AA
pins: A, C

## STM32F0DISCOVERY
designator U?
DISCOVERY STM32F051R8T6 EVAL BRD; Manufacturer: STMicroelectronics; Manufacturer Part Number: STM32F0DISCOVERY; Interface: USB; Evaluation Kit: Yes; Operating Supply Voltage: 5V; Core Architecture: ARM; Number of Bits: 32; Supplier: Mouser; Supplier Part Number: 511-STM32F0DISCOVERY; RoHS: Yes; Category: Embedded Processors and Controllers; Stock: 528; Pricing: 1=9.44, 10=9.44, 50=9.44, 100=9.44, 1000=9.44, 10000=9.44 (USD); Series: STM32F0; Packaging: Bulk; Radiation Hardening: No; Lead Free: Lead Free; Reach SVHC Compliant: No; ComponentLink1URL: https://datasheet.ciiva.com/4925/dm00050631-4925611.pdf?src-supplier=Mouser; ComponentLink1Description: https://datasheet.ciiva.com/4925/dm00050631-4925611.pdf?src-supplier=Mouser; ComponentLink2URL: https://datasheet.ciiva.com/26344/443923-da-01-en-discovery-kit-stm32f0discovery-26344596.pdf?src-supplier=Conrad; ComponentLink2Description: https://datasheet.ciiva.com/26344/443923-da-01-en-discovery-kit-stm32f0discovery-26344596.pdf?src-supplier=Conrad; ComponentLink3URL: https://datasheet.ciiva.com/2399/dm00039193-2399107.pdf?src-supplier=Digi-Key; ComponentLink3Description: https://datasheet.ciiva.com/2399/dm00039193-2399107.pdf?src-supplier=Digi-Key; ComponentLink4URL: https://datasheet.ciiva.com/16353/dm00050631-16353915.pdf?src-supplier=Future+Electronics; ComponentLink4Description: https://datasheet.ciiva.com/16353/dm00050631-16353915.pdf?src-supplier=Future+Electronics
footprint STM32F0DISCOVERY
pins: 1 3V (power), 2 GND (power), 3 VBAT (power), 4 PC13, 5 PC14, 6 PC15, 7 PF0, 8 PF1, 9 GND (power), 10 NRST, 11 PC0, 12 PC1, 13 PC2, 14 PC3, 15 PA0 (io), 16 PA1 (io), 17 PA2 (io), 18 PA3 (io), 19 PF4, 20 PF5, 21 PA4 (io), 22 PA5 (io), 23 PA6 (io), 24 PA7 (io), 25 PC4, 26 PC5, 27 PB0 (io), 28 PB1 (io), 29 PB2 (io), 30 PB10, 31 PB11 (io), 32 PB12 (io), 33 GND (power), 34 5V (power), 35 GND (power), 36 PB9, 37 PB8, 38 VDD (power), 39 BOOT0, 40 PB7 (io), 41 PB6 (io), 42 PB5, 43 PB4 (io), 44 PB3 (io), 45 PD2, 46 PC12, 47 PC11, 48 PC10, 49 PA15, 50 PA14, 51 PF7, 52 PF6, 53 PA13, 54 PA12 (io), 55 PA11 (io), 56 PA10 (io), 57 PA9 (io), 58 PA8, 59 PC9, 60 PC8, 61 PC7, 62 PC6, 63 PB15, 64 PB14 (io), 65 PB13 (io), 66 GND (power)

## STM32F051C8T7
designator U?
IC MCU 32BIT 64KB FLASH 48LQFP; Manufacturer: STMicroelectronics; Manufacturer Part Number: STM32F051C8T7; RAM Size: 8KB; Max Power Dissipation: 364mW; Interface: I2C,SPI,HDMI,IrDA,UART,USART,LIN,I2S; Number of I/Os: 39; Number of Timers/Counters: 8; Min Supply Voltage: 2V; Data Bus Width: 32b; Oscillator Type: Internal; Clock Frequency: 48MHz; Watchdog Timer: Yes; Peripherals: POR,PWM,WDT,DMA; Core Architecture: ARM; Number of ADC Channels: 13; Number of SPI Channels: 2; Number of Ethernet Channels: 1; Number of PWM Channels: 6; Max Supply Voltage: 3.6V; Supplier: Digi-Key; Supplier Part Number: 497-17348-ND; RoHS: Yes; Category: Microcontrollers; Stock: 250; Pricing: 1=4.57, 10=4.104, 25=3.8796, 80=3.36238, 250=3.18996, 500=2.86236, 1000=2.4633 (USD); Case/Package: LQFP; Pins: 48; Min Operating Temperature: -40°C; Max Operating Temperature: 105°C; Package Quantity: 250; Packaging: Tray; Number of Programmable I/O: 39; Memory Format: FLASH; Memory Size: 64KB; Series: STM32 F0; Frequency: 48MHz; Number of I2C Channels: 2; Length: 7.2mm; Width: 7.2mm; Height: 1.45mm; Radiation Hardening: No; Lead Free: Lead Free; RoHS Compliant: Yes; Reach SVHC Compliant: No; ComponentLink1URL: https://datasheet.ciiva.com/29719/dm00039193-29719805.pdf?src-supplier=Digi-Key; ComponentLink1Description: https://datasheet.ciiva.com/29719/dm00039193-29719805.pdf?src-supplier=Digi-Key; ComponentLink2URL: https://datasheet.ciiva.com/22691/1792127-22691883.pdf?src-supplier=Element14; ComponentLink2Description: https://datasheet.ciiva.com/22691/1792127-22691883.pdf?src-supplier=Element14
footprint Quad48
pins: 1 VBAT (power), 2 PC13 (io), 3 PC14-OSC32_IN (io), 4 PC15-OSC32_OUT (io), 5 PF0-OSC_IN (io), 6 PF1-OSC_OUT (io), 7 NRST (io), 8 VSSA (power), 9 VDDA (power), 10 PA0 (io), 11 PA1 (io), 12 PA2 (io), 13 PA3 (io), 14 PA4 (io), 15 PA5 (io), 16 PA6 (io), 17 PA7 (io), 18 PB0 (io), 19 PB1 (io), 20 PB2 (io), 21 PB10 (io), 22 PB11 (io), 23 VSS (power), 24 VDD (power), 25 PB12 (io), 26 PB13 (io), 27 PB14 (io), 28 PB15 (io), 29 PA8 (io), 30 PA9 (io), 31 PA10 (io), 32 PA11 (io), 33 PA12 (io), 34 PA13 (io), 35 PF6 (io), 36 PF7 (io), 37 PA14 (io), 38 PA15 (io), 39 PB3 (io), 40 PB4 (io), 41 PB5 (io), 42 PB6 (io), 43 PB7 (io), 44 BOOT0 (in), 45 PB8 (io), 46 PB9 (io), 47 VSS (power), 48 VDD (power)

## Test_point1
designator TP1, comment TP_1  (no BOM)
footprint Test_point1
pins: 1

## TL3305AF260QG
designator S?
SWITCH TACTILE SPST-NO 50MA 12V; Manufacturer: E-Switch; Manufacturer Part Number: TL3305AF260QG; Mechanical Life: 200000Cycles; Illumination Type: Non-Illuminated; Operating Force: 260gf; Throw Configuration: SPST; Switch Travel: 0.2mm; Switch Function: Off-Mom; Actuator Type: Standard; Supplier: Digi-Key; Supplier Part Number: EG5353CT-ND; RoHS: No; Category: Tactile Switches; Stock: 51880; Pricing: 1=0.21, 10=0.205, 25=0.1944, 100=0.176, 250=0.16048, 500=0.14918, 1000=0.12726 (USD); Mounting Technology: Surface Mount; Min Operating Temperature: -20°C; Max Operating Temperature: 70°C; Packaging: Cut Tape; Termination: Gull Wing; Series: TL3305; Lead Free: Lead Free; ComponentLink1URL: http://www.farnell.com/datasheets/2554191.pdf?src-supplier=Farnell; ComponentLink1Description: http://www.farnell.com/datasheets/2554191.pdf?src-supplier=Farnell; ComponentLink2URL: http://www.farnell.com/datasheets/2554191.pdf?src-supplier=Newark; ComponentLink2Description: http://www.farnell.com/datasheets/2554191.pdf?src-supplier=Newark; ComponentLink3URL: http://spec_sheets.e-switch.com/specs/P010471.pdf?src-supplier=Mouser; ComponentLink3Description: http://spec_sheets.e-switch.com/specs/P010471.pdf?src-supplier=Mouser; ComponentLink4URL: http://www.farnell.com/datasheets/2554191.pdf?src-supplier=Element14; ComponentLink4Description: http://www.farnell.com/datasheets/2554191.pdf?src-supplier=Element14; ComponentLink5URL: http://spec_sheets.e-switch.com/specs/P010471.pdf?src-supplier=Digi-Key; ComponentLink5Description: http://spec_sheets.e-switch.com/specs/P010471.pdf?src-supplier=Digi-Key; ComponentLink6URL: http://spec_sheets.e-switch.com/specs/P010471.pdf?src-supplier=NAC+Semi; ComponentLink6Description: http://spec_sheets.e-switch.com/specs/P010471.pdf?src-supplier=NAC+Semi
footprint TL3305 4.50mm x 4.50mm - duplicate
footprint TL3305 4.50mm x 4.50mm
pins: 1, 2, 3, 4